# EAGLE library part PIC32MX270F256D (library HW2_ME433)
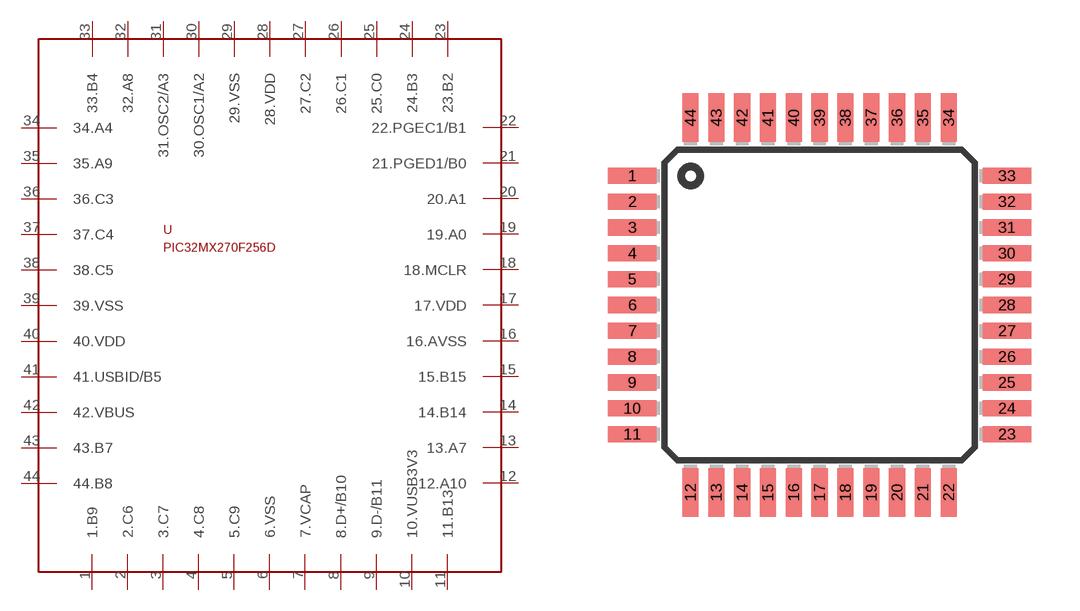
[diagram p1: symbol with the pads of TQFP44; footprint TQFP44]

Designator prefix -

## PIC32MX270F256D  [TQFP44]
1  1.B9
2  2.C6
3  3.C7
4  4.C8
5  5.C9
6  6.VSS
7  7.VCAP
8  8.D+/B10
9  9.D-/B11
10  10.VUSB3V3
11  11.B13
12  12.A10
13  13.A7
14  14.B14
15  15.B15
16  16.AVSS
17  17.VDD
18  18.MCLR
19  19.A0
20  20.A1
21  21.PGED1/B0
22  22.PGEC1/B1
23  23.B2
24  24.B3
25  25.C0
26  26.C1
27  27.C2
28  28.VDD
29  29.VSS
30  30.OSC1/A2
31  31.OSC2/A3
32  32.A8
33  33.B4
34  34.A4
35  35.A9
36  36.C3
37  37.C4
38  38.C5
39  39.VSS
40  40.VDD
41  41.USBID/B5
42  42.VBUS
43  43.B7
44  44.B8

## Footprint TQFP44 (pad centres in mm)
Thin Quad Flat Pack package type TQ
smd 1.5 x 0.5: 1 -5.8,4; 2 -5.8,3.2; 3 -5.8,2.4; 4 -5.8,1.6; 5 -5.8,0.8; 6 -5.8,0; 7 -5.8,-0.8; 8 -5.8,-1.6; 9 -5.8,-2.4; 10 -5.8,-3.2; 11 -5.8,-4; 23 5.8,-4; 24 5.8,-3.2; 25 5.8,-2.4; 26 5.8,-1.6; 27 5.8,-0.8; 28 5.8,0; 29 5.8,0.8; 30 5.8,1.6; 31 5.8,2.4; 32 5.8,3.2; 33 5.8,4
smd 0.5 x 1.5: 12 -4,-5.8; 13 -3.2,-5.8; 14 -2.4,-5.8; 15 -1.6,-5.8; 16 -0.8,-5.8; 17 0,-5.8; 18 0.8,-5.8; 19 1.6,-5.8; 20 2.4,-5.8; 21 3.2,-5.8; 22 4,-5.8; 34 4,5.8; 35 3.2,5.8; 36 2.4,5.8; 37 1.6,5.8; 38 0.8,5.8; 39 0,5.8; 40 -0.8,5.8; 41 -1.6,5.8; 42 -2.4,5.8; 43 -3.2,5.8; 44 -4,5.8